# Altium schematic symbol library SR420561N.SchLib: 1 symbol
Pins are listed as number, name and electrical type; pins without a type are passive.

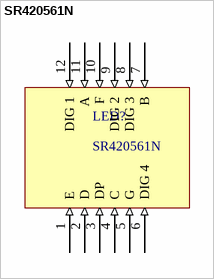
[diagram p0: symbol SR420561N]

## SR420561N
designator LED?
footprint SR420561N
pins: 1 E (in), 2 D (in), 3 DP (in), 4 C (in), 5 G (in), 6 DIG 4 (in), 7 B (in), 8 DIG 3 (in), 9 DIG 2 (in), 10 F (in), 11 A (in), 12 DIG 1 (in)